# EAGLE library part TC74VHC244 (library FaBo-LogicIC)
Octal BUFFER and LINE DRIVER, 3-state
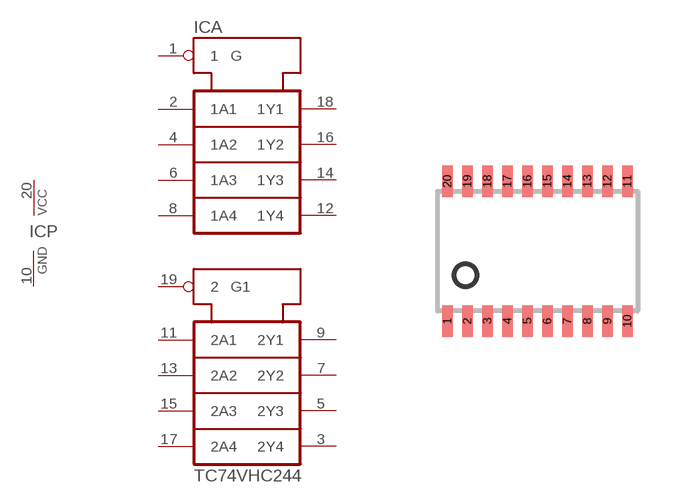
[diagram p1: symbol with the pads of VSSOP20; footprint VSSOP20]

Designator prefix IC; gates A=TC74VHC244 P=PWRN

## TC74VHC244  [VSSOP20]
1  A:1ˆG  in
2  A:1A1  in
3  A:2Y4  hiz
4  A:1A2  in
5  A:2Y3  hiz
6  A:1A3  in
7  A:2Y2  hiz
8  A:1A4  in
9  A:2Y1  hiz
10  P:GND  pwr
11  A:2A1  in
12  A:1Y4  hiz
13  A:2A2  in
14  A:1Y3  hiz
15  A:2A3  in
16  A:1Y2  hiz
17  A:2A4  in
18  A:1Y1  hiz
19  A:2ˆG1  in
20  P:VCC  pwr

## Footprint VSSOP20 (pad centres in mm)
VSSOP20-P-0030-0.50
smd 0.3 x 0.8: 1 -2.25,-1.75; 2 -1.75,-1.75; 3 -1.25,-1.75; 4 -0.75,-1.75; 5 -0.25,-1.75; 6 0.25,-1.75; 7 0.75,-1.75; 8 1.25,-1.75; 9 1.75,-1.75; 10 2.25,-1.75; 11 2.25,1.75; 12 1.75,1.75; 13 1.25,1.75; 14 0.75,1.75; 15 0.25,1.75; 16 -0.25,1.75; 17 -0.75,1.75; 18 -1.25,1.75; 19 -1.75,1.75; 20 -2.25,1.75